# Altium footprint library pcb_component.PcbLib: 38 footprints (part 2 of 3)
Each footprint in its own frame and in the unit in brackets; x right, y up, seen from the top. Pads: shape width x height; smd on the part's side, far side on the other; paste and mask are expansions set on the pad; w line width, h text height; cw(c..) or ccw(c..) is an arc to the next point about the centre after c.
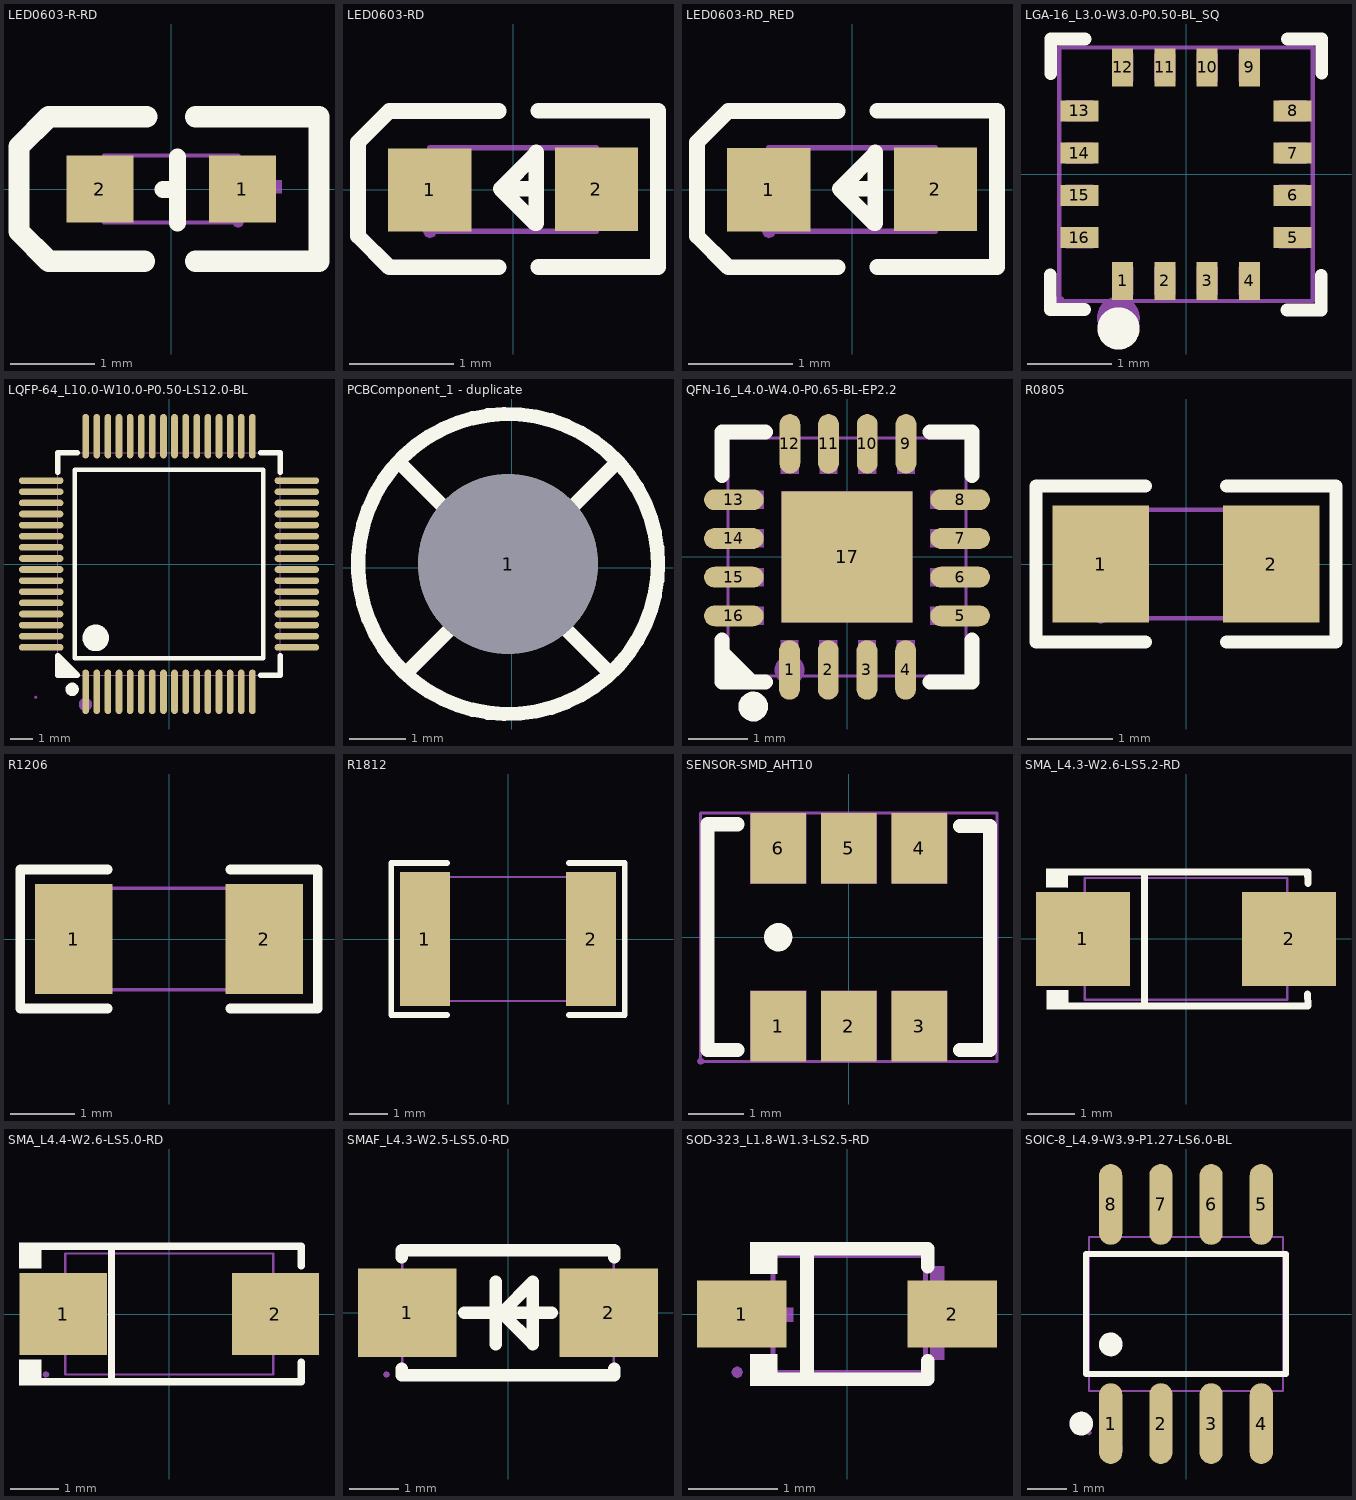
[diagram p1: the footprints below, top view; thin cyan lines are the x and y axes]

## LED0603-R-RD [mm]
pads (2):
  rect 0.8x0.8 smd paste+0 mask+0.051: 1(0.851,0) 2(-0.851,0)
Top Overlay:
  lines w0.203: -0.099,-0.008 0.076,-0.008 ; 0.076,-0.406 0.076,0.381
  lines w0.254: -0.318,-0.864 -1.46,-0.864 -1.816,-0.508 -1.816,0.508 -1.46,0.864 -0.292,0.864 ; 0.292,-0.864 1.765,-0.864 1.765,0.864 0.292,0.864
Mechanical 6:
  region: -1.193,0.05 -0.533,0.05 -0.533,-0.103 -1.193,-0.103
  region: 0.936,-0.275 0.936,0.385 1.088,0.385 1.088,-0.275
  region: 0.66,0.102 1.321,0.102 1.321,-0.051 0.66,-0.051
Mechanical 15:
  region: -0.8,-0.4 -0.8,0.4 -0.5,0.4 -0.5,-0.4
  region: 0.8,0.4 0.8,-0.4 0.5,-0.4 0.5,0.4
  region: 0.865,-0.4 0.846,-0.354 0.8,-0.335 0.754,-0.354 0.735,-0.4 0.754,-0.446 0.8,-0.465 0.846,-0.446
  lines w0.051: -0.8,-0.4 -0.8,0.4 0.8,0.4 0.8,-0.4 -0.8,-0.4

## LED0603-RD [mm]
pads (2):
  rect 0.8x0.8 smd paste+0 mask+0.051: 1(-0.799,-0.003) 2(0.799,0.003)
Top Overlay:
  lines w0.15: -0.14,-0.746 -1.19,-0.746 -1.49,-0.446 -1.49,-0.346 -1.49,0.354 -1.49,0.454 -1.19,0.754 -0.14,0.754 ; 0.22,0.007 -0.12,0.007 ; 0.24,-0.744 1.39,-0.744 ; 0.24,0.757 1.39,0.757 1.39,-0.723 ; -0.12,0.007 0.21,-0.324 0.22,-0.324 0.22,0.357 0.22,0.347 -0.12,0.007
Mechanical 6:
  region: -1.07,0.062 -0.53,0.062 -0.53,-0.068 -1.07,-0.068
  region: 0.735,-0.267 0.735,0.273 0.865,0.273 0.865,-0.267
  region: 0.529,0.068 1.069,0.068 1.069,-0.062 0.529,-0.062
Mechanical 15:
  region: -0.735,-0.403 -0.754,-0.358 -0.799,-0.339 -0.845,-0.358 -0.864,-0.403 -0.845,-0.449 -0.799,-0.468 -0.754,-0.449
  region: -0.8,-0.403 -0.8,0.397 -0.5,0.397 -0.5,-0.403
  region: 0.5,-0.396 0.5,0.404 0.8,0.404 0.8,-0.396
  lines w0.051: -0.8,-0.4 -0.8,0.4 0.8,0.4 0.8,-0.4 -0.8,-0.4

## LED0603-RD_RED [mm]
pads (2):
  rect 0.8x0.8 smd paste+0 mask+0.051: 1(-0.8,-0.003) 2(0.8,0.003)
Top Overlay:
  lines w0.15: -0.14,-0.746 -1.19,-0.746 -1.49,-0.446 -1.49,-0.346 -1.49,0.354 -1.49,0.454 -1.19,0.754 -0.14,0.754 ; 0.22,0.007 -0.12,0.007 ; 0.24,-0.744 1.39,-0.744 ; 0.24,0.757 1.39,0.757 1.39,-0.723 ; -0.12,0.007 0.22,0.347 0.22,0.357 0.22,-0.323 0.21,-0.323 -0.12,0.007
Mechanical 6:
  region: -1.07,0.062 -0.53,0.062 -0.53,-0.068 -1.07,-0.068
  region: 0.735,-0.267 0.735,0.273 0.865,0.273 0.865,-0.267
  region: 0.529,0.068 1.069,0.068 1.069,-0.062 0.529,-0.062
Mechanical 15:
  region: -0.8,-0.403 -0.8,0.397 -0.5,0.397 -0.5,-0.403
  region: 0.5,-0.396 0.5,0.404 0.8,0.404 0.8,-0.396
  region: -0.735,-0.403 -0.754,-0.358 -0.8,-0.339 -0.845,-0.358 -0.865,-0.403 -0.845,-0.449 -0.8,-0.468 -0.754,-0.449
  lines w0.051: -0.8,-0.4 0.8,-0.4 0.8,0.4 -0.8,0.4 -0.8,-0.4

## LGA-16_L3.0-W3.0-P0.50-BL_SQ [mm]
pads (16):
  rect 0.25x0.45 smd paste+0 mask+0.051: 1(-0.75,-1.263) 2(-0.25,-1.263) 3(0.25,-1.263) 4(0.75,-1.263) 9(0.75,1.263) 10(0.25,1.263) 11(-0.25,1.263) 12(-0.75,1.263)
  rect 0.45x0.25 smd paste+0 mask+0.051: 5(1.263,-0.75) 6(1.263,-0.25) 7(1.263,0.25) 8(1.263,0.75) 13(-1.263,0.75) 14(-1.263,0.25) 15(-1.263,-0.25) 16(-1.263,-0.75)
Top Overlay:
  lines w0.152: -1.606,-1.194 -1.606,-1.6 -1.2,-1.6 ; -1.6,1.194 -1.6,1.6 -1.194,1.6 ; 1.194,-1.606 1.6,-1.606 1.6,-1.2 ; 1.2,1.6 1.606,1.6 1.606,1.194
  lines w0.25: -0.8,-1.7 ccw(c-0.799,-1.825) -0.797,-1.7
Mechanical 6:
  circle w0.254: c-0.8,-1.7 r0.127
Mechanical 15:
  region: -1.101,-0.625 -1.101,-0.875 -1.426,-0.875 -1.426,-0.625
  region: -1.101,-0.125 -1.101,-0.375 -1.426,-0.375 -1.426,-0.125
  region: -1.101,0.375 -1.101,0.125 -1.426,0.125 -1.426,0.375
  region: -1.101,0.875 -1.101,0.625 -1.426,0.625 -1.426,0.875
  region: -0.625,1.101 -0.875,1.101 -0.875,1.426 -0.625,1.426
  region: -0.125,1.101 -0.375,1.101 -0.375,1.426 -0.125,1.426
  region: 0.375,1.101 0.125,1.101 0.125,1.426 0.375,1.426
  region: 0.875,1.101 0.625,1.101 0.625,1.426 0.875,1.426
  region: 1.426,0.875 1.426,0.625 1.101,0.625 1.101,0.875
  region: 1.426,0.375 1.426,0.125 1.101,0.125 1.101,0.375
  region: 1.426,-0.125 1.426,-0.375 1.101,-0.375 1.101,-0.125
  region: 1.426,-0.625 1.426,-0.875 1.101,-0.875 1.101,-0.625
  region: 0.875,-1.426 0.625,-1.426 0.625,-1.101 0.875,-1.101
  region: 0.375,-1.426 0.125,-1.426 0.125,-1.101 0.375,-1.101
  region: -0.125,-1.426 -0.375,-1.426 -0.375,-1.101 -0.125,-1.101
  region: -0.625,-1.426 -0.875,-1.426 -0.875,-1.101 -0.625,-1.101
  region: -1.565,-1.5 -1.546,-1.546 -1.5,-1.565 -1.454,-1.546 -1.435,-1.5 -1.454,-1.454 -1.5,-1.435 -1.546,-1.454
  lines w0.051: -1.5,-1.5 -1.5,1.5 1.5,1.5 1.5,-1.5 -1.5,-1.5

## LQFP-64_L10.0-W10.0-P0.50-LS12.0-BL [mm]
pads (64):
  oval 0.3x2 smd paste+0 mask+0.051: 1(-3.75,-5.75) 2(-3.25,-5.75) 3(-2.75,-5.75) 4(-2.25,-5.75) 5(-1.75,-5.75) 6(-1.25,-5.75) 7(-0.75,-5.75) 8(-0.25,-5.75) 9(0.25,-5.75) 10(0.75,-5.75) 11(1.25,-5.75) 12(1.75,-5.75) 13(2.25,-5.75) 14(2.75,-5.75) 15(3.25,-5.75) 16(3.75,-5.75) 33(3.75,5.75) 34(3.25,5.75) 35(2.75,5.75) 36(2.25,5.75) 37(1.75,5.75) 38(1.25,5.75) 39(0.75,5.75) 40(0.25,5.75) 41(-0.25,5.75) 42(-0.75,5.75) 43(-1.25,5.75) 44(-1.75,5.75) 45(-2.25,5.75) 46(-2.75,5.75) 47(-3.25,5.75) 48(-3.75,5.75)
  oval 2x0.3 smd paste+0 mask+0.051: 17(5.75,-3.75) 18(5.75,-3.25) 19(5.75,-2.75) 20(5.75,-2.25) 21(5.75,-1.75) 22(5.75,-1.25) 23(5.75,-0.75) 24(5.75,-0.25) 25(5.75,0.25) 26(5.75,0.75) 27(5.75,1.25) 28(5.75,1.75) 29(5.75,2.25) 30(5.75,2.75) 31(5.75,3.25) 32(5.75,3.75) 49(-5.75,3.75) 50(-5.75,3.25) 51(-5.75,2.75) 52(-5.75,2.25) 53(-5.75,1.75) 54(-5.75,1.25) 55(-5.75,0.75) 56(-5.75,0.25) 57(-5.75,-0.25) 58(-5.75,-0.75) 59(-5.75,-1.25) 60(-5.75,-1.75) 61(-5.75,-2.25) 62(-5.75,-2.75) 63(-5.75,-3.25) 64(-5.75,-3.75)
Top Overlay:
  region: -4.131,-5 -5,-4.131 -5,-5
  lines w0.2: -4.25,-4.25 -4.25,4.25 4.25,4.25 4.25,-4.25 -4.25,-4.25
  lines w0.254: -5,4.131 -5,5 -4.131,5 ; 4.131,-5 5,-5 5,-4.131 ; 4.131,5 5,5 5,4.131 ; -5,-4.131 -5,-4.131 ; -5,-4.131 -4.131,-5 -5,-5 -5,-4.131
  lines w0.3: -4.361,-5.49 ccw(c-4.36,-5.64) -4.359,-5.49
  lines w0.6: -3.299,-3.025 ccw(c-3.297,-3.325) -3.294,-3.025
Mechanical 6:
  circle w0.3: c-3.76,-6.32 r0.15
Mechanical 15:
  drawing of 133 lines, arcs and shapes, not listed

## PCBComponent_1 - duplicate [mil]
pads (1):
  round 126 / inner round 60 / far side round 60 hole 126 paste+0 mask+4: 1(-2.5,2.5)
Top Overlay:
  circle w10: c-2.5,2.5 r105
  lines w10: -77.5,72.5 67.5,-72.5 ; -72.5,-72.5 72.5,72.5

## QFN-16_L4.0-W4.0-P0.65-BL-EP2.2 [mm]
pads (17):
  oval 0.35x1 smd paste-100 mask+0.051: 1(-0.965,-1.9) 2(-0.315,-1.9) 3(0.335,-1.9) 4(0.986,-1.9) 9(0.991,1.9) 10(0.34,1.9) 11(-0.31,1.9) 12(-0.96,1.9)
  oval 1x0.35 smd paste-100 mask+0.051: 5(1.9,-0.991) 6(1.9,-0.34) 7(1.9,0.31) 8(1.9,0.96) 13(-1.9,0.96) 14(-1.9,0.31) 15(-1.9,-0.34) 16(-1.9,-0.991)
  rect 2.2x2.2 smd paste-100 mask+0.051: 17(0,0)
Top Overlay:
  circle w0.25: c-1.575,-2.515 r0.125
  region: -2.108,-1.575 -2.1,-2.1 -1.575,-2.1
  lines w0.254: -2.1,-1.572 -2.1,-1.607 -1.607,-2.1 ; -2.1,-1.397 -2.1,-2.1 -1.371,-2.1 ; -2.1,1.366 -2.1,2.1 -1.366,2.1 ; 1.392,-2.1 2.1,-2.1 2.1,-1.397 ; 1.397,2.1 2.1,2.1 2.1,1.366
Top Paste:
  drawing of 17 lines, arcs and shapes, not listed
Mechanical 6:
  circle w0.25: c-0.965,-1.9 r0.125
Mechanical 15:
  region: -1.4,-0.841 -1.4,-1.141 -2,-1.141 -2,-0.841
  region: -1.4,-0.19 -1.4,-0.49 -2,-0.49 -2,-0.19
  region: -1.4,0.46 -1.4,0.16 -2,0.16 -2,0.46
  region: -1.4,1.11 -1.4,0.81 -2,0.81 -2,1.11
  region: 2,-0.841 2,-1.141 1.4,-1.141 1.4,-0.841
  region: 2,-0.19 2,-0.49 1.4,-0.49 1.4,-0.19
  region: 2,0.46 2,0.16 1.4,0.16 1.4,0.46
  region: 2,1.11 2,0.81 1.4,0.81 1.4,1.11
  region: -1.115,-1.4 -0.815,-1.4 -0.815,-2 -1.115,-2
  region: -0.465,-1.4 -0.165,-1.4 -0.165,-2 -0.465,-2
  region: 0.185,-1.4 0.485,-1.4 0.485,-2 0.185,-2
  region: 0.836,-1.4 1.136,-1.4 1.136,-2 0.836,-2
  region: 0.841,2 1.141,2 1.141,1.4 0.841,1.4
  region: 0.19,2 0.49,2 0.49,1.4 0.19,1.4
  region: -0.46,2 -0.16,2 -0.16,1.4 -0.46,1.4
  region: -1.11,2 -0.81,2 -0.81,1.4 -1.11,1.4
  region: -1.1,-1.1 -1.1,1.1 1.1,1.1 1.1,-1.1
  region: -2,-1.935 -2.046,-1.954 -2.065,-2 -2.046,-2.046 -2,-2.065 -1.954,-2.046 -1.935,-2 -1.954,-1.954
  lines w0.051: -2,-2 2,-2 2,2 -2,2 -2,-2

## R0805 [mm]
pads (2):
  rect 1.133x1.377 smd paste-100 mask+0.051: 1(-1,0) 2(1,0)
Top Overlay:
  lines w0.152: -0.476,-0.917 -1.761,-0.917 -1.761,0.917 -0.476,0.917 ; 0.476,-0.917 1.761,-0.917 1.761,0.917 0.476,0.917
Top Paste:
  region: 0.45,-0.64 0.45,-0.22 0.895,-0.22 0.895,0.23 0.455,0.23 0.45,0.64 0.5,0.69 1.65,0.69 1.7,0.64 1.7,-0.64 1.65,-0.69 0.5,-0.69
  region: -1.7,-0.64 -1.7,0.64 -1.65,0.69 -0.5,0.69 -0.45,0.64 -0.445,0.23 -0.895,0.23 -0.895,-0.22 -0.455,-0.22 -0.45,-0.64 -0.5,-0.69 -1.65,-0.69
Mechanical 15:
  region: 1,-0.637 1,0.637 0.6,0.637 0.6,-0.637
  region: -1,-0.637 -1,0.637 -0.6,0.637 -0.6,-0.637
  region: -0.935,-0.638 -0.954,-0.592 -1,-0.573 -1.046,-0.592 -1.065,-0.638 -1.046,-0.683 -1,-0.702 -0.954,-0.683
  lines w0.051: -1,-0.637 1,-0.637 1,0.637 -1,0.637 -1,-0.637

## R1206 [mm]
pads (2):
  rect 1.208x1.701 smd paste-100 mask+0.051: 1(-1.479,0) 2(1.479,0)
Top Overlay:
  lines w0.152: -0.951,-1.079 -2.311,-1.079 -2.311,1.079 -0.951,1.079 ; 0.951,-1.079 2.311,-1.079 2.311,1.079 0.951,1.079
Top Paste:
  region: 0.875,-0.75 0.875,-0.389 0.975,-0.289 1.186,-0.289 1.286,-0.189 1.286,0.189 1.186,0.289 0.975,0.289 0.875,0.389 0.875,0.75 0.975,0.85 1.983,0.85 2.083,0.75 2.083,-0.75 1.983,-0.85 0.975,-0.85
  region: -0.875,-0.75 -0.875,-0.389 -0.975,-0.289 -1.186,-0.289 -1.286,-0.189 -1.286,0.189 -1.186,0.289 -0.975,0.289 -0.875,0.389 -0.875,0.75 -0.975,0.85 -1.983,0.85 -2.083,0.75 -2.083,-0.75 -1.983,-0.85 -0.975,-0.85
Mechanical 15:
  region: -1.615,-0.787 -1.596,-0.833 -1.55,-0.852 -1.504,-0.833 -1.485,-0.787 -1.504,-0.742 -1.55,-0.722 -1.596,-0.742
  region: -1.55,-0.788 -1.55,0.788 -1.1,0.788 -1.1,-0.788
  region: 1.55,-0.788 1.55,0.788 1.1,0.788 1.1,-0.788
  lines w0.051: -1.55,-0.788 -1.55,0.788 1.55,0.788 1.55,-0.788 -1.55,-0.788

## R1812 [mm]
pads (2):
  rect 1.283x3.456 smd paste-100 mask+0.051: 1(-2.141,0) 2(2.141,0)
Top Overlay:
  lines w0.152: -1.576,-1.957 -3.011,-1.957 -3.011,1.957 -1.576,1.957 ; 1.576,-1.957 3.011,-1.957 3.011,1.957 1.576,1.957
Top Paste:
  region: -1.5,-1.628 -1.5,-0.688 -1.6,-0.588 -1.836,-0.588 -1.936,-0.488 -1.936,0.488 -1.836,0.588 -1.6,0.588 -1.5,0.688 -1.5,1.628 -1.6,1.728 -2.683,1.728 -2.783,1.628 -2.783,-1.628 -2.683,-1.728 -1.6,-1.728
  region: 1.5,-1.628 1.5,-0.688 1.6,-0.588 1.836,-0.588 1.936,-0.488 1.936,0.488 1.836,0.588 1.6,0.588 1.5,0.688 1.5,1.628 1.6,1.728 2.683,1.728 2.783,1.628 2.783,-1.628 2.683,-1.728 1.6,-1.728
Mechanical 15:
  region: 2.25,-1.6 2.25,1.6 1.75,1.6 1.75,-1.6
  region: -2.25,-1.6 -2.25,1.6 -1.75,1.6 -1.75,-1.6
  region: -2.315,-1.6 -2.296,-1.646 -2.25,-1.665 -2.204,-1.646 -2.185,-1.6 -2.204,-1.554 -2.25,-1.535 -2.296,-1.554
  lines w0.051: -2.25,-1.6 2.25,-1.6 2.25,1.6 -2.25,1.6 -2.25,-1.6

## SENSOR-SMD_AHT10 [mm]
pads (6):
  rect 1x1.27 smd paste+0 mask+0.051: 1(-1.27,-1.6) 2(0,-1.6) 3(1.27,-1.6) 4(1.27,1.6) 5(0,1.6) 6(-1.27,1.6)
Top Overlay:
  circle w0.254: c-1.27,0 r0.127
  lines w0.254: -2.001,-2.032 -2.54,-2.032 -2.54,2.032 -2.001,2.032 ; 2.001,-2.032 2.54,-2.032 ; 2.001,2 2.54,2 2.54,-2
Mechanical 15:
  region: -1.77,2.235 -0.77,2.235 -0.77,0.965 -1.77,0.965
  region: -0.5,2.235 0.5,2.235 0.5,0.965 -0.5,0.965
  region: 0.77,2.235 1.77,2.235 1.77,0.965 0.77,0.965
  region: 0.77,-0.965 1.77,-0.965 1.77,-2.235 0.77,-2.235
  region: -0.5,-0.965 0.5,-0.965 0.5,-2.235 -0.5,-2.235
  region: -1.77,-0.965 -0.77,-0.965 -0.77,-2.235 -1.77,-2.235
  region: -2.667,-2.17 -2.713,-2.189 -2.732,-2.235 -2.713,-2.281 -2.667,-2.3 -2.621,-2.281 -2.602,-2.235 -2.621,-2.189
  lines w0.051: -2.667,-2.235 -2.667,2.235 2.667,2.235 2.667,-2.235 -2.667,-2.235

## SMA_L4.3-W2.6-LS5.2-RD [mm]
pads (2):
  rect 2x2 smd paste+0 mask+0.051: 1(-2.2,0) 2(2.2,0)
Top Overlay:
  region: -2.52,1.502 -2.521,1.096 -2.981,1.1 -2.977,1.502
  region: -2.512,-1.096 -2.513,-1.503 -2.973,-1.498 -2.969,-1.096
  lines w0.152: -2.596,-1.426 2.596,-1.426 ; -2.596,1.426 2.596,1.426 2.603,1.187 ; -0.884,-1.426 -0.884,1.426 ; 2.593,-1.176 2.6,-1.415
Mechanical 6:
  region: -2.317,-0.101 -2.317,0.101 -1.507,0.101 -1.507,-0.101
  region: 2.29,-0.09 2.29,0.112 1.48,0.112 1.48,-0.09
  region: 2.014,-0.675 2.014,0.675 1.811,0.675 1.811,-0.675
Mechanical 15:
  region: -2.54,-1.3 -2.559,-1.254 -2.605,-1.235 -2.651,-1.254 -2.67,-1.3 -2.651,-1.346 -2.605,-1.365 -2.559,-1.346
  region: 2.605,0.725 2.605,-0.725 1.48,-0.725 1.48,0.725
  region: -1.48,0.725 -1.48,-0.725 -2.605,-0.725 -2.605,0.725
  lines w0.051: -2.16,-1.3 -2.16,1.3 2.16,1.3 2.16,-1.3 -2.16,-1.3

## SMA_L4.4-W2.6-LS5.0-RD [mm]
pads (2):
  rect 1.8x1.7 smd paste+0 mask+0.051: 1(-2.192,0) 2(2.192,0)
Top Overlay:
  region: -2.65,-1.477 -2.65,-0.949 -3.107,-0.949 -3.107,-1.477
  region: -2.65,1.477 -2.65,0.949 -3.107,0.949 -3.107,1.477
  lines w0.152: -2.726,-1.401 2.726,-1.401 2.726,-1 ; -2.726,1.401 2.726,1.401 2.726,1 ; -1.197,-1.401 -1.197,1.401
Mechanical 6:
  region: 2.153,-0.663 2.153,0.663 1.954,0.663 1.954,-0.663
  region: 2.451,-0.099 2.451,0.099 1.656,0.099 1.656,-0.099
  region: -2.451,-0.099 -2.451,0.099 -1.656,0.099 -1.656,-0.099
Mechanical 15:
  region: 1.35,-0.725 1.35,0.725 2.55,0.725 2.55,-0.725
  region: -1.35,0.725 -1.35,-0.725 -2.55,-0.725 -2.55,0.725
  region: -2.55,-1.315 -2.504,-1.296 -2.485,-1.25 -2.504,-1.204 -2.55,-1.185 -2.596,-1.204 -2.615,-1.25 -2.596,-1.296
  lines w0.051: -2.15,-1.25 2.15,-1.25 2.15,1.25 -2.15,1.25 -2.15,-1.25

## SMAF_L4.3-W2.5-LS5.0-RD [mm]
pads (2):
  rect 2x1.8 smd paste+0 mask+0.051: 1(-2.05,0) 2(2.05,0)
Top Overlay:
  lines w0.254: -2.158,-1.131 -2.158,-1.27 2.16,-1.27 2.16,-1.131 ; -2.158,1.131 -2.158,1.27 2.16,1.27 2.16,1.131 ; -0.889,0 0.889,0 ; -0.254,-0.635 -0.254,0.635 ; -0.127,0 0.508,-0.635 0.508,0.508 0.508,0.635 -0.127,0
Mechanical 6:
  region: -2.482,0.254 -2.482,-0.052 -1.258,-0.052 -1.258,0.254
  region: 2.541,0.127 2.541,-0.179 1.317,-0.179 1.317,0.127
  region: 1.779,-0.635 2.085,-0.635 2.085,0.589 1.779,0.589
Mechanical 15:
  region: -2.539,-1.25 -2.52,-1.296 -2.474,-1.315 -2.428,-1.296 -2.409,-1.25 -2.428,-1.204 -2.474,-1.185 -2.52,-1.204
  region: -1.274,-0.725 -2.474,-0.725 -2.474,0.725 -1.274,0.725
  region: 2.476,-0.725 1.276,-0.725 1.276,0.725 2.476,0.725
  lines w0.051: -2.149,-1.25 -2.149,1.25 2.151,1.25 2.151,-1.25 -2.149,-1.25

## SOD-323_L1.8-W1.3-LS2.5-RD [mm]
pads (2):
  rect 1x0.75 smd paste+0 mask+0.051: 1(-1.173,0) 2(1.173,0)
Top Overlay:
  region: -0.775,0.802 -0.775,0.45 -1.08,0.45 -1.08,0.802
  region: -0.775,-0.802 -0.775,-0.45 -1.08,-0.45 -1.08,-0.802
  lines w0.152: -0.851,-0.726 0.901,-0.726 0.901,-0.52 ; -0.851,0.726 0.901,0.726 0.901,0.53 ; -0.447,-0.726 -0.447,0.726
Mechanical 6:
  region: -1.225,0.07 -1.225,-0.086 -0.601,-0.086 -0.601,0.07
  region: 1.315,0.09 1.315,-0.066 0.691,-0.066 0.691,0.09
  region: 1.083,0.53 1.083,-0.51 0.927,-0.51 0.927,0.53
Mechanical 15:
  region: -1.29,-0.65 -1.271,-0.696 -1.225,-0.715 -1.179,-0.696 -1.16,-0.65 -1.179,-0.604 -1.225,-0.585 -1.271,-0.604
  region: 1.275,0.16 1.275,-0.16 0.975,-0.16 0.975,0.16
  region: 0.985,0.16 0.985,-0.16 0.865,-0.16 0.865,0.16
  region: -0.925,0.16 -0.925,-0.16 -1.225,-0.16 -1.225,0.16
  region: -0.815,0.16 -0.815,-0.16 -0.935,-0.16 -0.935,0.16
  lines w0.051: -0.825,-0.65 0.875,-0.65 0.875,0.65 -0.825,0.65 -0.825,-0.65

## SOIC-8_L4.9-W3.9-P1.27-LS6.0-BL [mm]
pads (8):
  oval 0.588x2.045 smd paste+0 mask+0.051: 1(-1.905,-2.772) 2(-0.635,-2.772) 3(0.635,-2.772) 4(1.905,-2.772) 5(1.905,2.772) 6(0.635,2.772) 7(-0.635,2.772) 8(-1.905,2.772)
Top Overlay:
  circle w0.3: c-1.905,-0.769 r0.15
  circle w0.3: c-2.652,-2.772 r0.15
  lines w0.152: -2.526,-1.521 -2.526,1.521 2.526,1.521 2.526,-1.521 -2.526,-1.521
Mechanical 6:
  circle w0.3: c-1.905,-3.4 r0.15
Mechanical 15:
  region: -2.385,-3 -2.404,-2.954 -2.45,-2.935 -2.496,-2.954 -2.515,-3 -2.496,-3.046 -2.45,-3.065 -2.404,-3.046
  region: -2.115,-3 -2.115,-2.165 -1.695,-2.165 -1.695,-3
  region: -2.115,-2.175 -2.115,-1.94 -1.695,-1.94 -1.695,-2.175
  region: -0.845,-3 -0.845,-2.165 -0.425,-2.165 -0.425,-3
  region: -0.845,-2.175 -0.845,-1.94 -0.425,-1.94 -0.425,-2.175
  region: 0.425,-3 0.425,-2.165 0.845,-2.165 0.845,-3
  region: 0.425,-2.175 0.425,-1.94 0.845,-1.94 0.845,-2.175
  region: 1.695,-3 1.695,-2.165 2.115,-2.165 2.115,-3
  region: 1.695,-2.175 1.695,-1.94 2.115,-1.94 2.115,-2.175
  region: -2.115,3 -2.115,2.165 -1.695,2.165 -1.695,3
  region: -2.115,2.175 -2.115,1.94 -1.695,1.94 -1.695,2.175
  region: -0.845,3 -0.845,2.165 -0.425,2.165 -0.425,3
  region: -0.845,2.175 -0.845,1.94 -0.425,1.94 -0.425,2.175
  region: 0.425,3 0.425,2.165 0.845,2.165 0.845,3
  region: 0.425,2.175 0.425,1.94 0.845,1.94 0.845,2.175
  region: 1.695,3 1.695,2.165 2.115,2.165 2.115,3
  region: 1.695,2.175 1.695,1.94 2.115,1.94 2.115,2.175
  lines w0.051: -2.45,-1.95 -2.45,1.95 2.45,1.95 2.45,-1.95 -2.45,-1.95